# Altium schematic symbol library Simple-Six-SATA-Backplane-Special.SchLib: 1 symbol
Pins are listed as number, name and electrical type; pins without a type are passive.

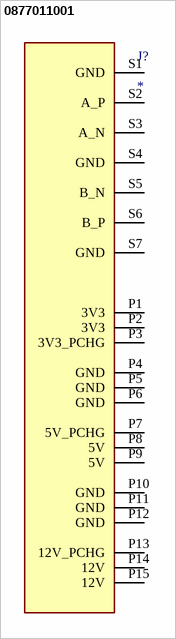
[diagram p0: symbol 0877011001]

## 0877011001
designator J?
Connector; Manufacturer_Name: Molex; Manufacturer_Part_Number: 0877011001; Description: I/O Connectors SATA COMBO HOST REC VT PFIT; Datasheet Link: https://www.molex.com/pdm_docs/sd/877011001_sd.pdf; Height: 8.25mm; Mouser Part Number: N/A; Mouser Price/Stock: https://www.mouser.co.uk/ProductDetail/Molex/0877011001?qs=PBcRNPEHKsqwD0qCdO56GA%3D%3D; Arrow Part Number: 0877011001; Arrow Price/Stock: https://www.arrow.com/en/products/0877011001/molex
footprint 0877011001
pins: P1 3V3, P2 3V3, P3 3V3_PCHG, P4 GND, P5 GND, P6 GND, P7 5V_PCHG, P8 5V, P9 5V, P10 GND, P11 GND, P12 GND, P13 12V_PCHG, P14 12V, P15 12V, S1 GND, S2 A_P, S3 A_N, S4 GND, S5 B_N, S6 B_P, S7 GND